# Altium footprint library BMA423.PcbLib: 1 footprints
Each footprint in its own frame and in the unit in brackets; x right, y up, seen from the top. Pads: shape width x height; smd on the part's side, far side on the other; paste and mask are expansions set on the pad; w line width, h text height; cw(c..) or ccw(c..) is an arc to the next point about the centre after c.
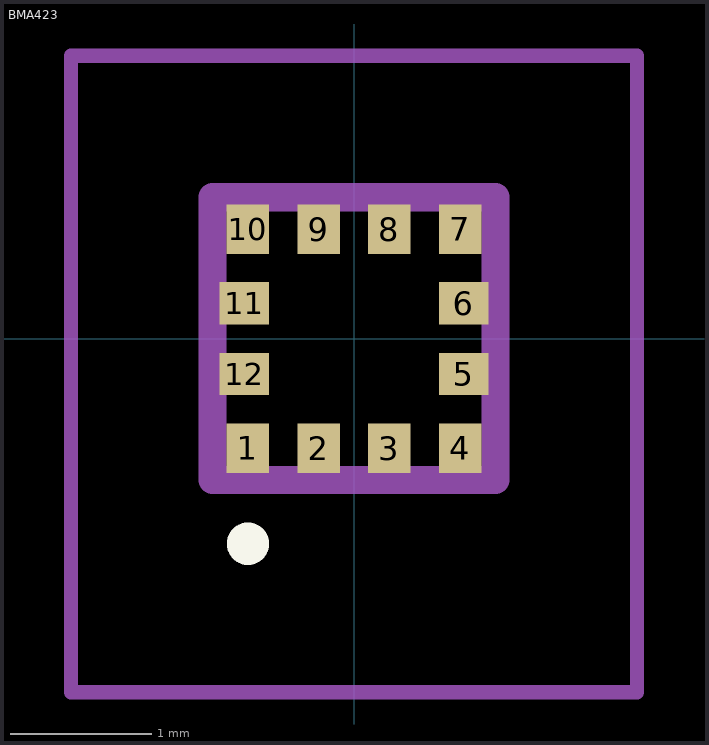
[diagram p0: the footprint, top view; thin cyan lines are the x and y axes]

## BMA423 [mm]
pads (12):
  rect 0.3x0.35 smd: 1(-0.75,-0.775) 2(-0.25,-0.775) 3(0.25,-0.775) 4(0.75,-0.775) 7(0.75,0.775) 8(0.25,0.775) 9(-0.25,0.775) 10(-0.75,0.775)
  rect 0.35x0.3 smd: 5(0.775,-0.25) 6(0.775,0.25) 11(-0.775,0.25) 12(-0.775,-0.25)
Top Overlay:
  lines w0.2: -0.75,-1.5 cw(c-0.75,-1.45) -0.75,-1.4 ; -0.75,-1.5 -0.75,-1.5 ; -0.75,-1.5 ccw(c-0.75,-1.45) -0.75,-1.4 ; -0.75,-1.5 cw(c-0.75,-1.45) -0.75,-1.4 ; -0.75,-1.4 -0.75,-1.4 ; -0.75,-1.4 -0.75,-1.4
Mechanical 15:
  lines w0.2: -1,-1 1,-1 1,1 -1,1 -1,-1
Mechanical 20:
  lines w0.1: -2,-2.5 2,-2.5 2,2 -2,2 -2,-2.5